# Altium schematic symbol library SDP_PPCB.SchLib: 9 symbols
Pins are listed as number, name and electrical type; pins without a type are passive.

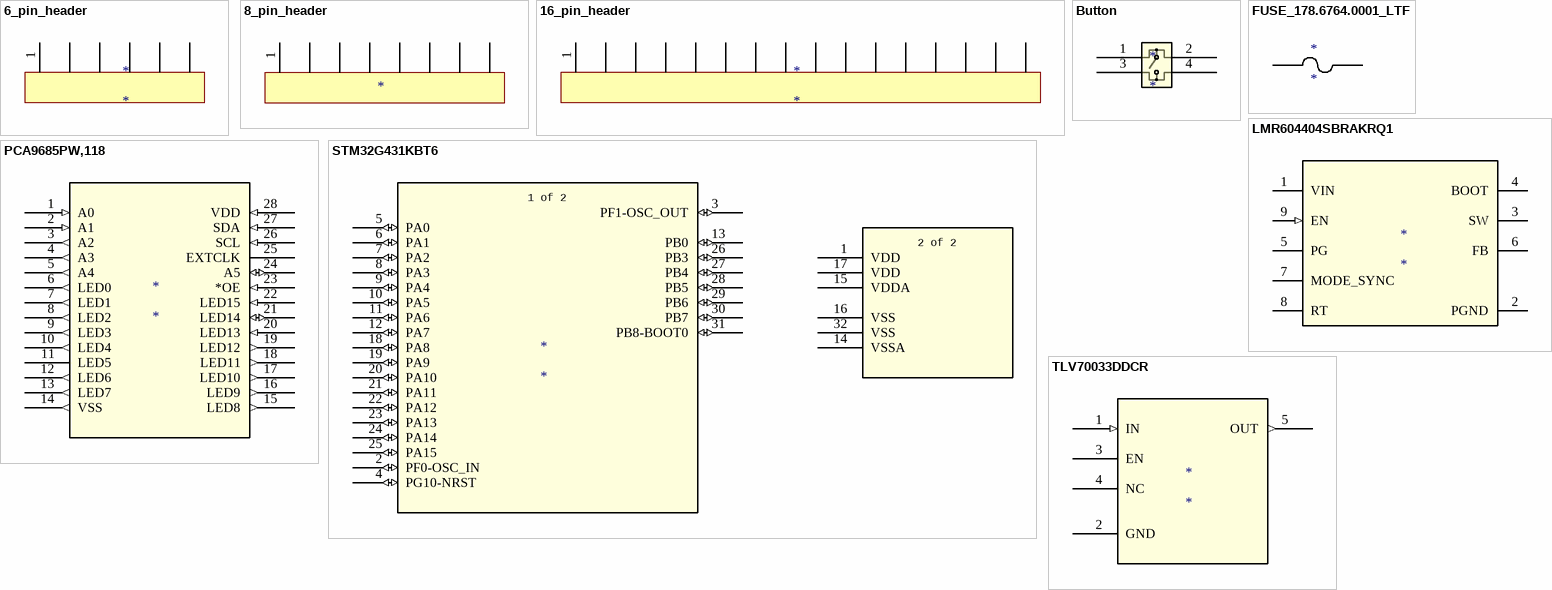
[diagram p0: symbols 6_pin_header to TLV70033DDCR]

## 6_pin_header
designator *
pins: 1, 2, 3, 4, 5, 6

## 8_pin_header
designator ?
pins: 1, 2, 3, 4, 5, 6, 7, 8

## 16_pin_header
designator *
pins: 1, 2, 3, 4, 5, 6, 7, 8, 9, 10, 11, 12, 13, 14, 15, 16

## Button
designator *
footprint Button
pins: 1, 2, 3, 4

## FUSE_178.6764.0001_LTF
designator *
footprint fuse_holder
pins: 1, 2

## LMR604404SBRAKRQ1
designator *
footprint LMR604404SBRAKRQ1
pins: 1 VIN (power), 2 PGND (oc), 3 SW, 4 BOOT, 5 PG (oc), 6 FB, 7 MODE_SYNC, 8 RT, 9 EN (in)

## PCA9685PW,118
designator *
footprint TSSOP28_SOT361-1_NXP
pins: 1 A0 (in), 2 A1 (in), 3 A2 (out), 4 A3 (out), 5 A4 (out), 6 LED0 (out), 7 LED1 (out), 8 LED2 (out), 9 LED3 (out), 10 LED4 (out), 11 LED5 (power), 12 LED6 (out), 13 LED7 (out), 14 VSS (out), 15 LED8 (out), 16 LED9 (out), 17 LED10 (out), 18 LED11 (out), 19 LED12 (out), 20 LED13 (in), 21 LED14 (io), 22 LED15 (in), 23 *OE (in), 24 A5 (io), 25 EXTCLK (power), 26 SCL (in), 27 SDA (in), 28 VDD (in)

## STM32G431KBT6
designator *
footprint LQFP-32
pins: 1 VDD (power), 2 PF0-OSC_IN (io), 3 PF1-OSC_OUT (io), 4 PG10-NRST (io), 5 PA0 (io), 6 PA1 (io), 7 PA2 (io), 8 PA3 (io), 9 PA4 (io), 10 PA5 (io), 11 PA6 (io), 12 PA7 (io), 13 PB0 (io), 14 VSSA (power), 15 VDDA (power), 16 VSS (power), 17 VDD (power), 18 PA8 (io), 19 PA9 (io), 20 PA10 (io), 21 PA11 (io), 22 PA12 (io), 23 PA13 (io), 24 PA14 (io), 25 PA15 (io), 26 PB3 (io), 27 PB4 (io), 28 PB5 (io), 29 PB6 (io), 30 PB7 (io), 31 PB8-BOOT0 (io), 32 VSS (power)
text: 1 of 2; 2 of 2

## TLV70033DDCR
designator *
footprint DDC5-M
pins: 1 IN (in), 2 GND (power), 3 EN, 4 NC, 5 OUT (out)